# EAGLE library part LTC4444 (library 2016PowerPackLibraries)
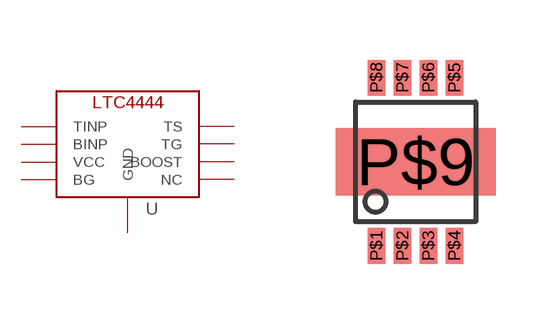
[diagram p5: symbol with the pads of MS8E; footprint MS8E]

Designator prefix -

## LTC4444  [MS8E]
P$1  TINP
P$2  BINP
P$3  VCC
P$4  BG
P$5  NC
P$6  BOOST
P$7  TG
P$8  TS
P$9  GND

## Footprint MS8E (pad centres in mm)
smd 0.442 x 0.889: P$1 -0.975,-2.106; P$2 -0.325,-2.106; P$3 0.325,-2.106; P$4 0.975,-2.106; P$5 0.975,2.106; P$6 0.325,2.106; P$7 -0.325,2.106; P$8 -0.975,2.106
smd 4 x 1.68: P$9 0,0